# Altium footprint library MotherBoard.PcbLib: 21 footprints (part 2 of 2)
Each footprint in its own frame and in the unit in brackets; x right, y up, seen from the top. Pads: shape width x height; smd on the part's side, far side on the other; paste and mask are expansions set on the pad; w line width, h text height; cw(c..) or ccw(c..) is an arc to the next point about the centre after c.
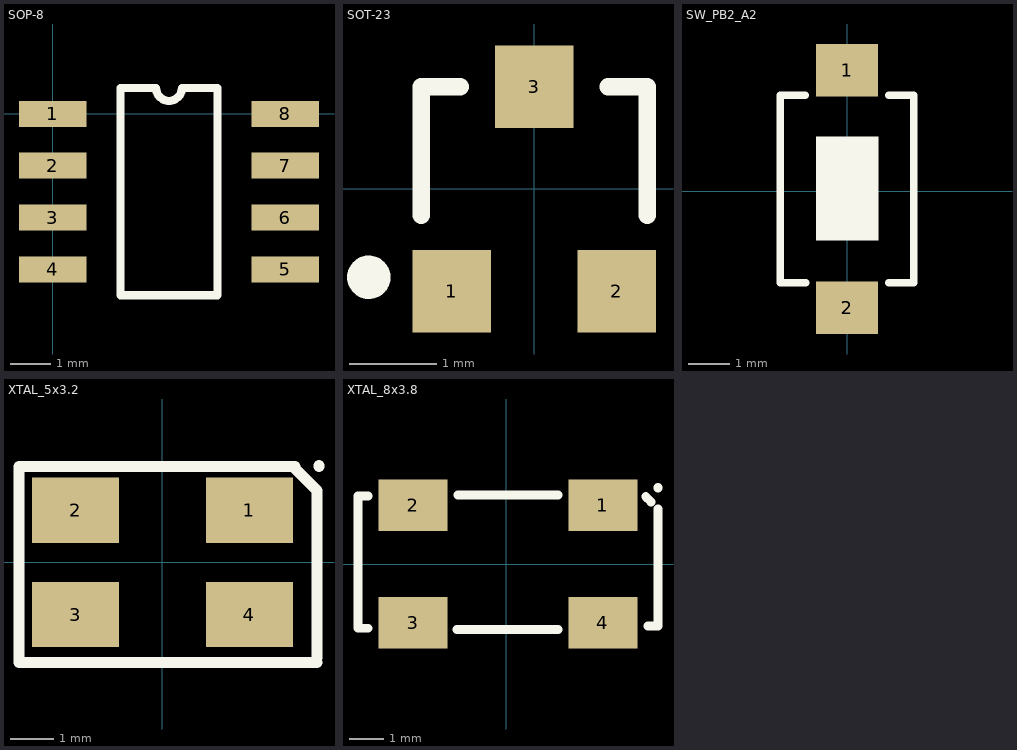
[diagram p1: the footprints below, top view; thin cyan lines are the x and y axes]

## SOP-8 [mil]
height 104.33
pads (8):
  rect 65x25 smd: 1(0,0) 2(0,-50) 3(0,-100) 4(0,-150) 5(224.41,-150) 6(224.41,-100) 7(224.41,-50) 8(224.41,0)
Top Overlay:
  lines w7.87: 65.37,-175 65.37,25 99.7,25 ccw(c112.2,25) 124.7,25 159.04,25 159.04,-175 65.37,-175

## SOT-23 [mm]
height 1.1
pads (3):
  rect 0.9x0.95 smd: 1(-0.95,-1.175) 2(0.95,-1.175) 3(0,1.175)
Top Overlay:
  circle w0.25: c-1.903,-1.016 r0.125
  lines w0.2: -1.3,-0.3 -1.3,1.175 -0.85,1.175 ; 0.85,1.175 1.3,1.175 1.3,-0.3

## SW_PB2_A2 [mm] "3*4mm"
pads (2):
  rect 1.5x1.25 smd: 1(0,2.9) 2(0,-2.8)
Top Overlay:
  region: -0.747,1.309 -0.747,-1.191 0.753,-1.191 0.753,1.309
  lines w0.178: -1,2.3 -1.6,2.3 -1.6,-2.198 -0.995,-2.202 ; 1,-2.2 1.6,-2.2 1.6,2.3 1,2.3
3D body: height 1.2, standoff 0.8, extent -0.762,-1.143 0.762,1.27

## XTAL_5x3.2 [mm] "晶振ABM3B-8.000MHZ-10-1-U-T"
height 1.1
pads (4):
  rect 2x1.5 smd: 1(2,1.2) 2(-2,1.2) 3(-2,-1.2) 4(2,-1.2)
Top Overlay:
  lines w0.254: 3.046,2.154 3.55,1.65 3.55,-2.2 ; 3.046,2.2 -3.3,2.2 -3.3,-2.3 3.55,-2.3 ; 3.6,2.2 3.6,2.225

## XTAL_8x3.8 [mm] "四脚晶振"
height 4
pads (4):
  rect 2x1.5 smd: 1(2.8,1.7) 2(-2.7,1.7) 3(-2.7,-1.7) 4(2.8,-1.7)
Top Overlay:
  lines w0.254: -4,-1.865 -4.3,-1.865 -4.3,1.969 -4,1.969 ; -1.432,-1.9 1.5,-1.9 ; -1.4,2 1.5,2 ; 4.046,1.954 4.2,1.8 ; 4.1,-1.8 4.4,-1.8 4.4,1.6 ; 4.4,2.2 4.4,2.225